# Altium schematic symbol library ic-logic.SchLib: 16 symbols
Pins are listed as number, name and electrical type; pins without a type are passive.

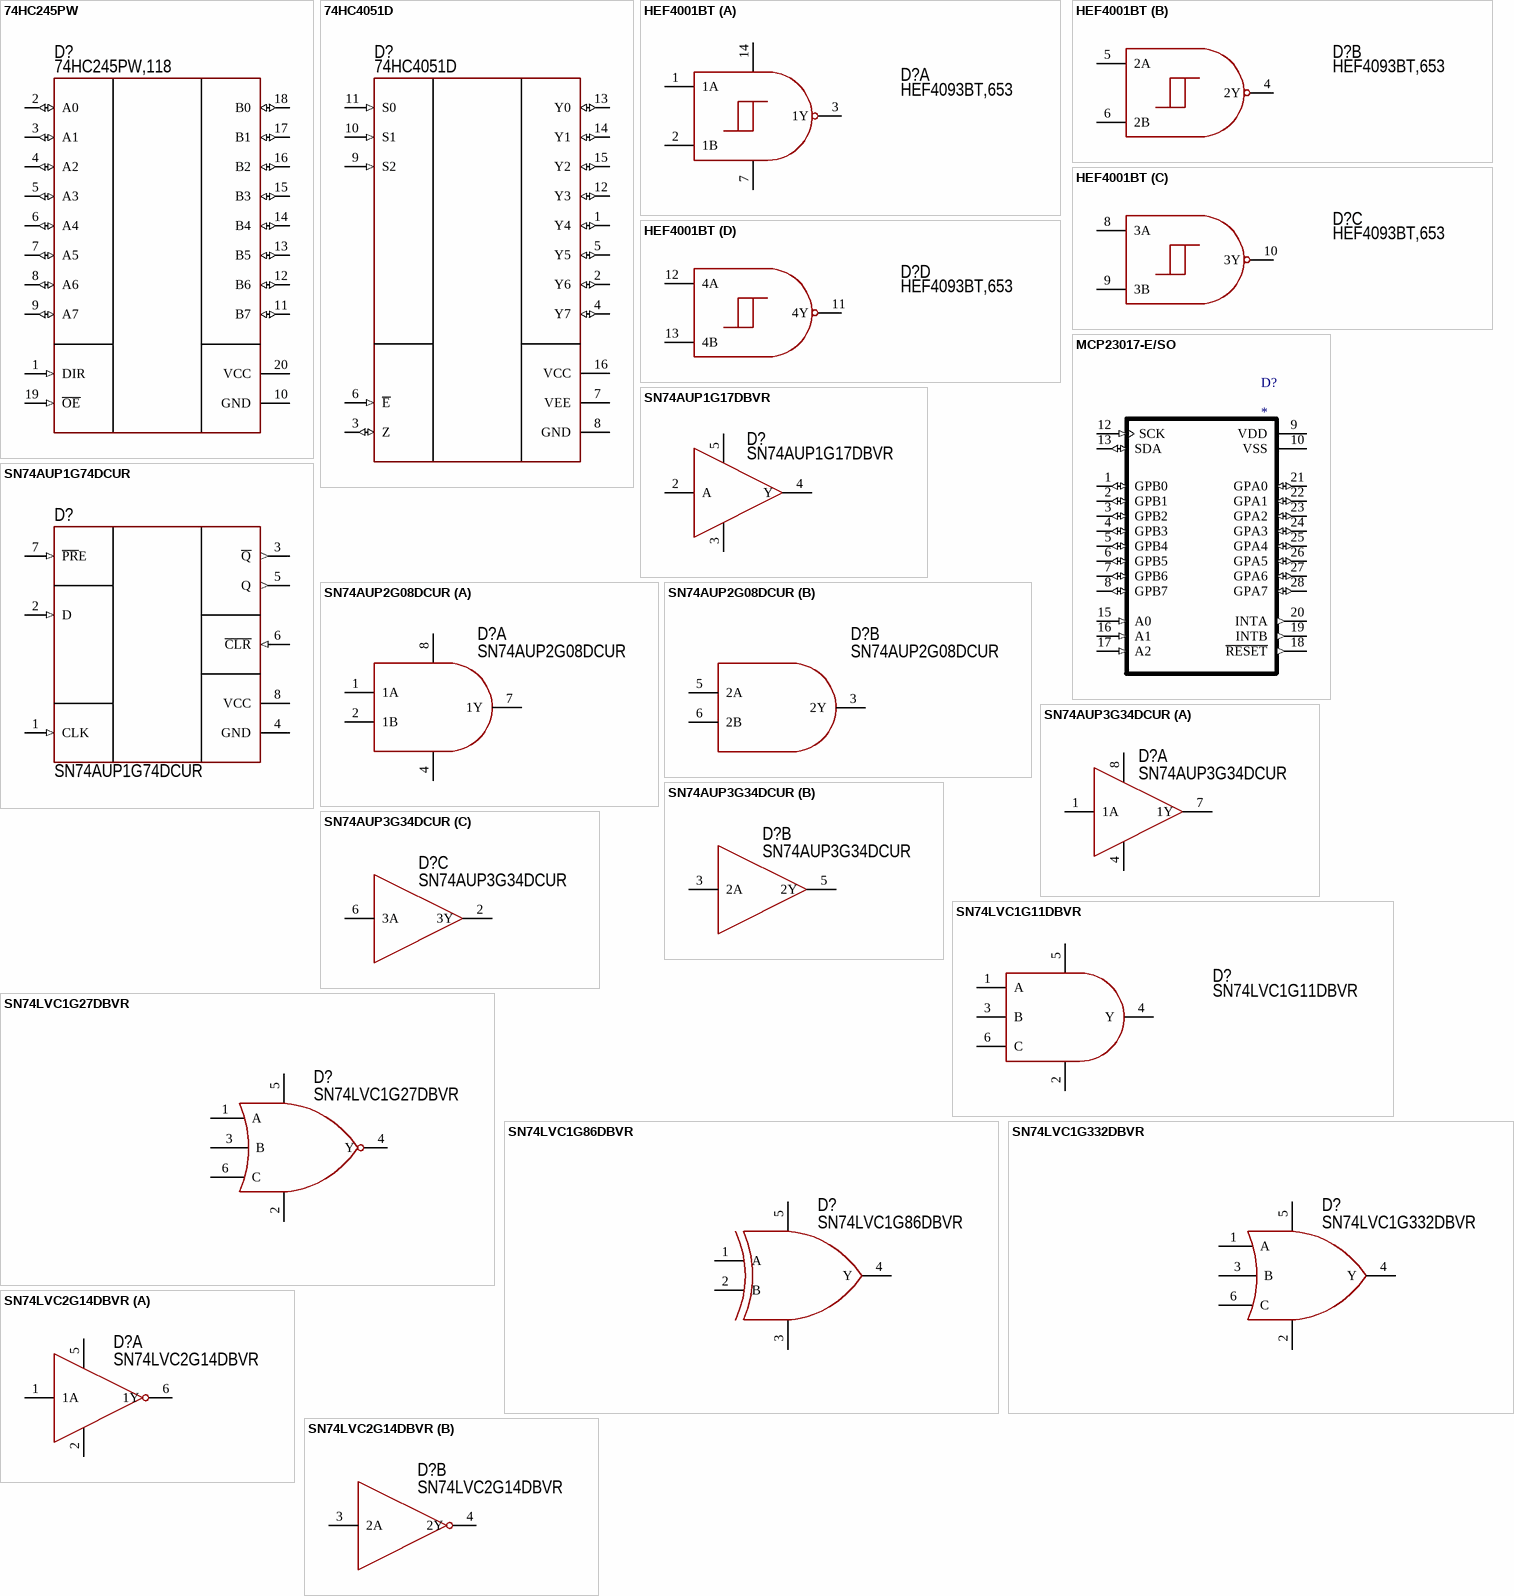
[diagram p0: symbols 74HC245PW to SN74LVC2G14DBVR]

## 74HC245PW
designator D?  PartNumber: 74HC245PW,118
Buffer; Manufacturer: Nexperia; ValueManufacturerPartNumber: IC logic buffer, 2...6V, -40...+125°C, 20-TSSOP; Supply: 2...6V; HelpURL: https://www.digikey.com/product-detail/en/nexperia-usa-inc/74HC245PW118/1727-4296-1-ND/2209913; Package: 20-TSSOP; ComponentType: IC logic buffer; Temperature: -40...+125°C
footprint 20-TSSOP (pitch 0.65 mm)
pins: 1 DIR (in), 2 A0 (io), 3 A1 (io), 4 A2 (io), 5 A3 (io), 6 A4 (io), 7 A5 (io), 8 A6 (io), 9 A7 (io), 10 GND, 11 B7 (io), 12 B6 (io), 13 B5 (io), 14 B4 (io), 15 B3 (io), 16 B2 (io), 17 B1 (io), 18 B0 (io), 19 ~{OE} (in), 20 VCC

## 74HC4051D
designator D?  PartNumber: 74HC4051D
8-channel analog multiplexer/demultiplexer; Manufacturer: Nexperia; ValueManufacturerPartNumber: IC analog multiplexer/demultiplexer, 2...5.5V, -40...+125°C, 16-SO; Supply: 2...5.5V; HelpURL: https://www.nexperia.com/products/analog-logic-ics/i-o-expansion-logic/analog-switches/74HC4051D.html; Package: 16-SO; ComponentType: IC analog multiplexer/demultiplexer; Temperature: -40...+125°C
footprint 16-SO (pitch 1.27 mm)
pins: 1 Y4 (io), 2 Y6 (io), 3 Z (io), 4 Y7 (io), 5 Y5 (io), 6 ~{E} (in), 7 VEE (power), 8 GND, 9 S2 (in), 10 S1 (in), 11 S0 (in), 12 Y3 (io), 13 Y0 (io), 14 Y1 (io), 15 Y2 (io), 16 VCC (power)

## HEF4001BT
designator D?  PartNumber: HEF4093BT,653
NAND Schmitt Trigger; Manufacturer: Nexperia USA Inc.; ValueManufacturerPartNumber: IC logic NAND, 3...15V, -40...+125°C, 14-SOIC; Supply: 3...15V; HelpURL: https://www.digikey.com/en/products/detail/nexperia-usa-inc/HEF4093BT653/763309?s=N4IgTCBcDaIBIFEBiAWADATgMwCEAqANAGwCsWIAugL5A; Package: 14-SOIC; ComponentType: IC logic NAND; Temperature: -40...+125°C
footprint 14-SOIC (pitch 1.27 mm)
part A pins: 1 1A, 2 1B, 3 1Y, 7 (power), 14 (power)
part B pins: 4 2Y, 5 2A, 6 2B
part C pins: 8 3A, 9 3B, 10 3Y
part D pins: 11 4Y, 12 4A, 13 4B

## MCP23017-E/SO
designator D?
I/O Port Expander, 16-Bit, I2C I'face, SOIC-28 | Microchip Technology Inc. MCP23017-E/SO; SnapEDA_Link: https://www.snapeda.com/parts/MCP23017-E/SO/Microchip/view-part/?ref=snap; Package: SOIC-28 Microchip; Value: *; MF: Microchip; MP: MCP23017-E/SO; Check_prices: https://www.snapeda.com/parts/MCP23017-E/SO/Microchip/view-part/?ref=eda
footprint 28-SOIC (pitch 1.27 mm)
footprint 28-SOIC-N
pins: 1 GPB0 (io), 2 GPB1 (io), 3 GPB2 (io), 4 GPB3 (io), 5 GPB4 (io), 6 GPB5 (io), 7 GPB6 (io), 8 GPB7 (io), 9 VDD (power), 10 VSS (power), 12 SCK (in), 13 SDA (io), 15 A0 (in), 16 A1 (in), 17 A2 (in), 18 ~{RESET} (out), 19 INTB (out), 20 INTA (out), 21 GPA0 (io), 22 GPA1 (io), 23 GPA2 (io), 24 GPA3 (io), 25 GPA4 (io), 26 GPA5 (io), 27 GPA6 (io), 28 GPA7 (io)

## SN74AUP1G17DBVR
designator D?  PartNumber: SN74AUP1G17DBVR
Schmitt trigger; Manufacturer: Texas Instruments; ValueManufacturerPartNumber: IC Schmitt trigger, 0.8...3.6V, -40...+85°C, SOT23-6; Supply: 0.8...3.6V; HelpURL: https://www.digikey.com/product-detail/en/texas-instruments/SN74AUP1G17DBVR/296-19077-1-ND/864308; Package: SOT23-6; ComponentType: IC Schmitt trigger; Temperature: -40...+85°C
footprint SOT23-5 (pitch 0.95 mm)
pins: 2 A, 3, 4 Y, 5

## SN74AUP1G74DCUR
designator D?  PartNumber: SN74AUP1G74DCUR
D-trigger; Manufacturer: Texas Instruments; ValueManufacturerPartNumber: ICtrigger D-type, 0.8...3.6V, -40...+85°C, 8-VSSOP; Supply: 0.8...3.6V; HelpURL: https://www.digikey.com/product-detail/en/texas-instruments/SN74AUP1G74DCUR/296-19761-1-ND/1091423; Package: 8-VSSOP; ComponentType: ICtrigger D-type; Temperature: -40...+85°C
footprint 8-VSSOP
pins: 1 CLK (in), 2 D (in), 3 ~{Q} (out), 4 GND, 5 Q (out), 6 ~{CLR} (in), 7 ~{PR}E (in), 8 VCC

## SN74AUP2G08DCUR
designator D?  PartNumber: SN74AUP2G08DCUR
AND; Manufacturer: Texas Instruments; ValueManufacturerPartNumber: IC logic AND, 0.8...3.6V, -40...+855°C, 8-VSSOP; Supply: 0.8...3.6V; HelpURL: https://www.digikey.com/product-detail/en/texas-instruments/SN74AUP2G08DCUR/296-32271-1-ND/3505517; Package: 8-VSSOP; ComponentType: IC logic AND; Temperature: -40...+855°C
footprint 8-VSSOP
part A pins: 1 1A, 2 1B, 4, 7 1Y, 8
part B pins: 3 2Y, 5 2A, 6 2B

## SN74AUP3G34DCUR
designator D?  PartNumber: SN74AUP3G34DCUR
Buffer; Manufacturer: Texas Instruments; ValueManufacturerPartNumber: IC logic buffer, 0.8...3.6V, -40...+85°C, 8-VSSOP; Supply: 0.8...3.6V; HelpURL: https://www.digikey.com/product-detail/en/texas-instruments/SN74AUP3G34DCUR/296-25595-1-ND/2202056; Package: 8-VSSOP; ComponentType: IC logic buffer; Temperature: -40...+85°C
footprint 8-VSSOP
part A pins: 1 1A, 4, 7 1Y, 8
part B pins: 3 2A, 5 2Y
part C pins: 2 3Y, 6 3A

## SN74LVC1G11DBVR
designator D?  PartNumber: SN74LVC1G11DBVR
AND; Manufacturer: Texas Instruments; ValueManufacturerPartNumber: IC logic AND, 1.65...5.5V, -40...+125°C, SOT23-6; Supply: 1.65...5.5V; HelpURL: https://www.digikey.com/product-detail/en/texas-instruments/SN74LVC1G11DBVR/296-16810-1-ND/637183; Package: SOT23-6; ComponentType: IC logic AND; Temperature: -40...+125°C
footprint SOT23-6 (pitch 0.95 mm)
pins: 1 A, 2 (power), 3 B, 4 Y, 5 (power), 6 C

## SN74LVC1G27DBVR
designator D?  PartNumber: SN74LVC1G27DBVR
NOR; Manufacturer: Texas Instruments; ValueManufacturerPartNumber: IC logic NOR, 1.65...5.5V, -40...+125°C, SOT23-6; Supply: 1.65...5.5V; HelpURL: https://www.digikey.com/product-detail/en/texas-instruments/SN74LVC1G27DBVR/296-17119-2-ND/664036; Package: SOT23-6; ComponentType: IC logic NOR; Temperature: -40...+125°C
footprint SOT23-6 (pitch 0.95 mm)
pins: 1 A, 2, 3 B, 4 Y, 5, 6 C

## SN74LVC1G86DBVR
designator D?  PartNumber: SN74LVC1G86DBVR
XOR; Manufacturer: Texas Instruments; ValueManufacturerPartNumber: IC logic XOR, 1.65...5.5V, -40...+125°C, SOT23-5; Supply: 1.65...5.5V; HelpURL: https://www.digikey.com/product-detail/en/texas-instruments/SN74LVC1G86DBVR/296-9853-1-ND/380077; Package: SOT23-5; ComponentType: IC logic XOR; Temperature: -40...+125°C
footprint SOT23-5 (pitch 0.95 mm)
pins: 1 A, 2 B, 3, 4 Y, 5

## SN74LVC1G332DBVR
designator D?  PartNumber: SN74LVC1G332DBVR
OR; Manufacturer: Texas Instruments; ValueManufacturerPartNumber: IC logic OR, 1.65...5.5V, -40...+125°C, SOT23-6; Supply: 1.65...5.5V; HelpURL: https://www.digikey.com/product-detail/en/texas-instruments/SN74LVC1G332DBVR/296-18587-1-ND/857355; Package: SOT23-6; ComponentType: IC logic OR; Temperature: -40...+125°C
footprint SOT23-6 (pitch 0.95 mm)
pins: 1 A, 2, 3 B, 4 Y, 5, 6 C

## SN74LVC2G14DBVR
designator D?  PartNumber: SN74LVC2G14DBVR
Inverter; Manufacturer: Texas Instruments; ValueManufacturerPartNumber: IC logic inverter, 1.65...5.5V, -40...+125°C, SOT23-6; Supply: 1.65...5.5V; HelpURL: https://www.digikey.com/product-detail/en/texas-instruments/SN74LVC2G14DBVR/296-13010-1-ND/479730; Package: SOT23-6; ComponentType: IC logic inverter; Temperature: -40...+125°C
footprint SOT23-6 (pitch 0.95 mm)
part A pins: 1 1A, 2, 5, 6 1Y
part B pins: 3 2A, 4 2Y

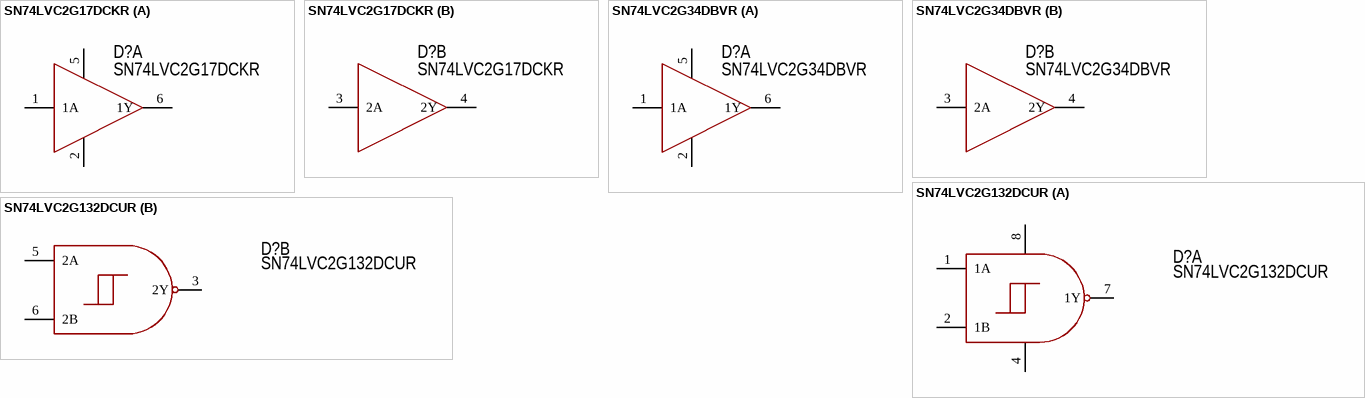
[diagram p1: symbols SN74LVC2G17DCKR to SN74LVC2G132DCUR]

## SN74LVC2G17DCKR
designator D?  PartNumber: SN74LVC2G17DCKR
Buffer; Manufacturer: Texas Instruments; ValueManufacturerPartNumber: IC logic buffer, 1.65...5.5V, -40...+125°C, SC-70-6; Supply: 1.65...5.5V; HelpURL: https://www.digikey.com/product-detail/en/texas-instruments/SN74LVC2G17DCKR/296-13013-1-ND/479736; Package: SC-70-6; ComponentType: IC logic buffer; Temperature: -40...+125°C
footprint SC70-6 (SOT23, 5-Leads, Body 2,90x2,80mm, Pitch 0,95mm, IPC Medium Density)
part A pins: 1 1A, 2, 5, 6 1Y
part B pins: 3 2A, 4 2Y

## SN74LVC2G34DBVR
designator D?  PartNumber: SN74LVC2G34DBVR
Buffer; Manufacturer: Texas Instruments; ValueManufacturerPartNumber: IC logic buffer, 1.65...5.5V, -40...+125°C, SOT23-6; Supply: 1.65...5.5V; HelpURL: https://www.digikey.com/product-detail/en/texas-instruments/SN74LVC2G34DBVR/296-13496-1-ND/486431; Package: SOT23-6; ComponentType: IC logic buffer; Temperature: -40...+125°C
footprint SOT23-6 (pitch 0.95 mm)
part A pins: 1 1A, 2, 5, 6 1Y
part B pins: 3 2A, 4 2Y

## SN74LVC2G132DCUR
designator D?  PartNumber: SN74LVC2G132DCUR
NAND Schmitt Trigger; Manufacturer: Texas Instruments; ValueManufacturerPartNumber: IC logic NAND, 1.65...5.5V, -40...+125°C, VSSOP-8; Supply: 1.65...5.5V; HelpURL: https://www.digikey.com/en/products/detail/texas-instruments/SN74LVC2G132DCUR/863636?s=N4IgTCBcDaIMoDkDsAWAMgNQMJgOIEYBmMAESwFUAlEAXQF8g; Package: VSSOP-8; ComponentType: IC logic NAND; Temperature: -40...+125°C
footprint 8-VSSOP
part A pins: 1 1A, 2 1B, 4 (power), 7 1Y, 8 (power)
part B pins: 3 2Y, 5 2A, 6 2B